# EAGLE library part MGA-633P8-BLKG (library Avago_By_element14_Batch_1)
Ultra Low Noise, High Linearity Active Bias Low Noise Amplifi er
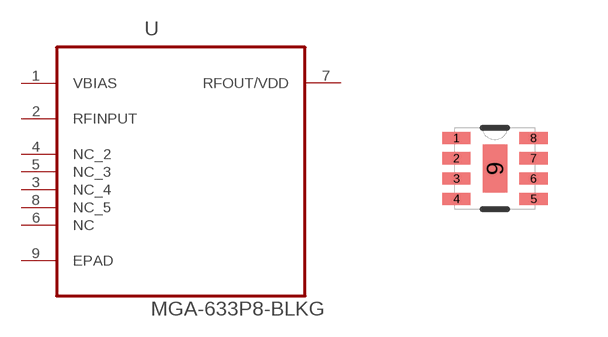
[diagram p23: symbol with the pads of SON50P200X200X80-9N; footprint SON50P200X200X80-9N]

Designator prefix U

## MGA-633P8-BLKG (DESCRIPTION: Ultra Low Noise, High Linearity Active Bias Low Noise Amplifi er; MPN: MGA-633P8-BLKG; OC_FARNELL: 1865189; OC_NEWARK: 64R0266; PACKAGE: SON-8; SUPPLIER: AVAGO TECHNOLOGIES)  [SON50P200X200X80-9N]
1  VBIAS  in
2  RFINPUT  in
3  NC_4  nc
4  NC_2  nc
5  NC_3  nc
6  NC  nc
7  RFOUT/VDD  out
8  NC_5  nc
9  EPAD  pas

## Footprint SON50P200X200X80-9N (pad centres in mm)
smd 0.711 x 0.305: 1 -0.965,0.762; 2 -0.965,0.254; 3 -0.965,-0.254; 4 -0.965,-0.762; 5 0.965,-0.762; 6 0.965,-0.254; 7 0.965,0.254; 8 0.965,0.762
smd 0.61 x 1.194: 9 0,0